# EAGLE library part 3M10PIN2500 (library OpenPMSM)
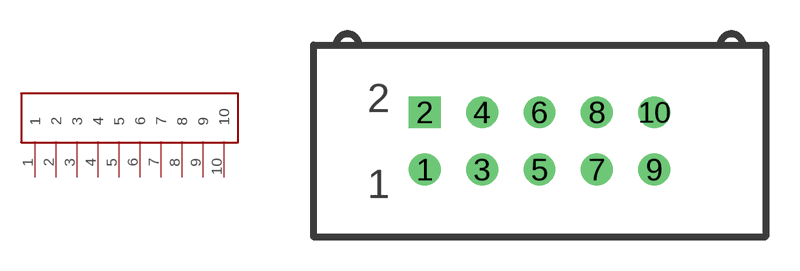
[diagram p1: symbol with the pads of FOUR-WALL-2500-LP-STH; footprint FOUR-WALL-2500-LP-STH]

Designator prefix -

## 3M10PIN2500  [FOUR-WALL-2500-LP-STH]
1  1
2  2
3  3
4  4
5  5
6  6
7  7
8  8
9  9
10  10

## Footprint FOUR-WALL-2500-LP-STH (pad centres in mm)
drill 0.9: 1 -5.08,-1.27; 3 -2.54,-1.27; 4 -2.54,1.27; 5 0,-1.27; 6 0,1.27; 7 2.54,-1.27; 8 2.54,1.27; 9 5.08,-1.27; 10 5.08,1.27
drill 0.9 square: 2 -5.08,1.27